# Altium footprint library LTST-C230KFKT.PcbLib: 2 footprints
Each footprint in its own frame and in the unit in brackets; x right, y up, seen from the top. Pads: shape width x height; smd on the part's side, far side on the other; paste and mask are expansions set on the pad; w line width, h text height; cw(c..) or ccw(c..) is an arc to the next point about the centre after c.
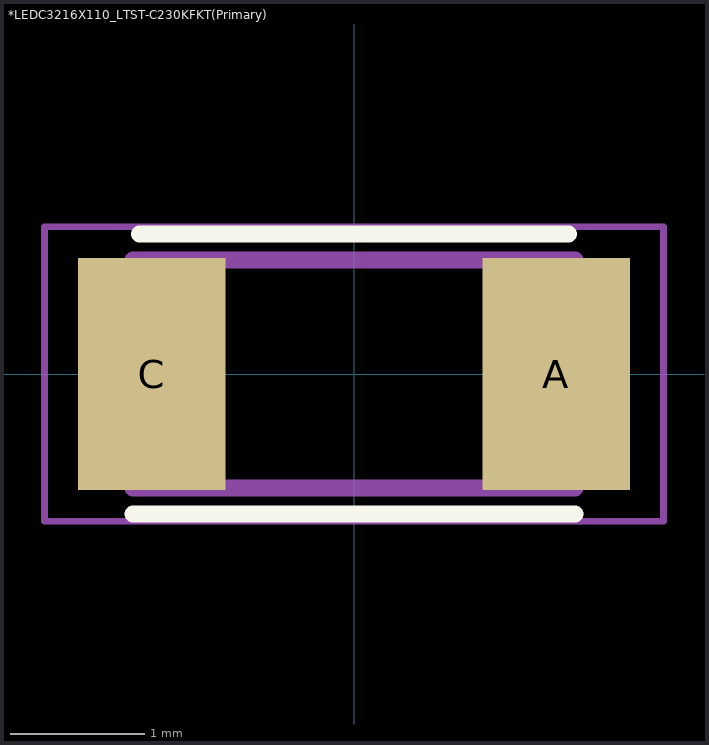
[diagram p0: the footprints below, top view; thin cyan lines are the x and y axes]

## *LEDC3216X110_LTST-C230KFKT(Primary) [mm]
pads (2):
  rect 1.1x1.73 smd: A(1.51,0) C(-1.51,0)
Top Overlay:
  lines w0.127: -1.65,-1.045 1.65,-1.045 ; -1.6,1.045 1.6,1.045
Mechanical 4:
  lines w0.127: -1.65,-0.85 1.65,-0.85 ; -1.65,-0.85 -1.65,0.85 ; -1.65,-0.85 1.65,-0.85 ; -1.65,-0.85 -1.65,0.85 ; -1.65,0.85 1.65,0.85 ; -1.65,0.85 1.65,0.85 ; 1.65,-0.85 1.65,0.85 ; 1.65,-0.85 1.65,0.85
Mechanical 16:
  lines w0.05: -2.31,-1.1 -2.31,1.1 2.31,1.1 2.31,-1.1 -2.31,-1.1

## PCBComponent_1 [mm]